# Altium footprint library Seeed-OPL-ic.PCBLIB: 95 footprints (part 6 of 6)
Each footprint in its own frame and in the unit in brackets; x right, y up, seen from the top. Pads: shape width x height; smd on the part's side, far side on the other; paste and mask are expansions set on the pad; w line width, h text height; cw(c..) or ccw(c..) is an arc to the next point about the centre after c.
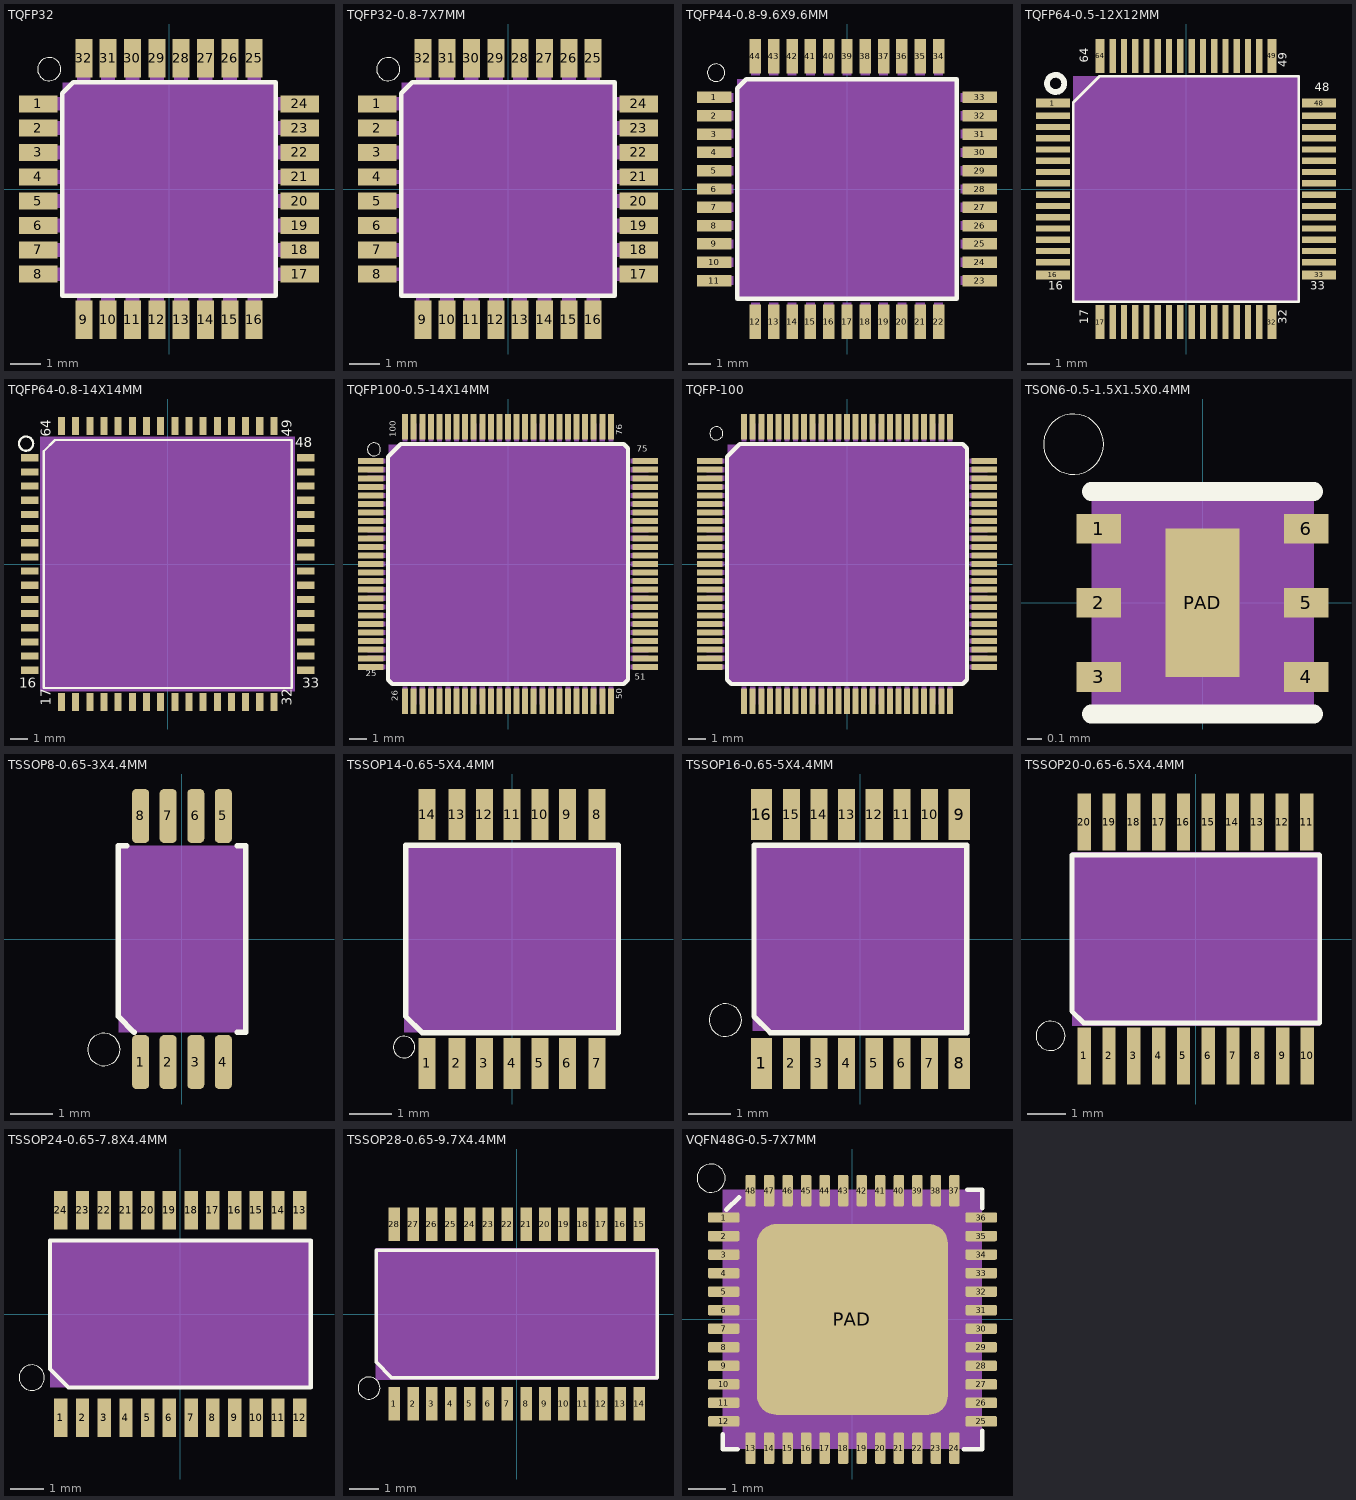
[diagram p5: the footprints below, top view; thin cyan lines are the x and y axes]

## TQFP32 [mil]
pads (32):
  rect 50x22 smd: 1(-169,110.24) 2(-169,78.74) 3(-169,47.24) 4(-169,15.75) 5(-169,-15.75) 6(-169,-47.24) 7(-169,-78.74) 8(-169,-110.24) 17(169,-110.24) 18(169,-78.74) 19(169,-47.24) 20(169,-15.75) 21(169,15.75) 22(169,47.24) 23(169,78.74) 24(169,110.24)
  rect 22x50 smd: 9(-110.24,-169) 10(-78.74,-169) 11(-47.24,-169) 12(-15.75,-169) 13(15.75,-169) 14(47.24,-169) 15(78.74,-169) 16(110.24,-169) 25(110.24,169) 26(78.74,169) 27(47.24,169) 28(15.75,169) 29(-15.75,169) 30(-47.24,169) 31(-78.74,169) 32(-110.24,169)
Top Overlay:
  circle w0: c-155,155 r15
  lines w6: -137.99,-137.99 137.99,-137.99 137.99,137.99 -124.02,137.99 -137.99,124.02 -137.99,-137.99
Mechanical 16:
  rectangle: -179,101.24 -140,119.24
  rectangle: -179,69.74 -140,87.74
  rectangle: -179,38.24 -140,56.24
  rectangle: -179,6.75 -140,24.75
  rectangle: -179,-24.75 -140,-6.75
  rectangle: -179,-56.24 -140,-38.24
  rectangle: -179,-87.74 -140,-69.74
  rectangle: -179,-119.24 -140,-101.24
  rectangle: -119.24,-179 -101.24,-140
  rectangle: -87.74,-179 -69.74,-140
  rectangle: -56.24,-179 -38.24,-140
  rectangle: -24.75,-179 -6.75,-140
  rectangle: 6.75,-179 24.75,-140
  rectangle: 38.24,-179 56.24,-140
  rectangle: 69.74,-179 87.74,-140
  rectangle: 101.24,-179 119.24,-140
  rectangle: 140,-119.24 179,-101.24
  rectangle: 140,-87.74 179,-69.74
  rectangle: 140,-56.24 179,-38.24
  rectangle: 140,-24.75 179,-6.75
  rectangle: 140,6.75 179,24.75
  rectangle: 140,38.24 179,56.24
  rectangle: 140,69.74 179,87.74
  rectangle: 140,101.24 179,119.24
  rectangle: 101.24,140 119.24,179
  rectangle: 69.74,140 87.74,179
  rectangle: 38.24,140 56.24,179
  rectangle: 6.75,140 24.75,179
  rectangle: -24.75,140 -6.75,179
  rectangle: -56.24,140 -38.24,179
  rectangle: -87.74,140 -69.74,179
  rectangle: -119.24,140 -101.24,179
Mechanical 27:
  rectangle: -137.99,-137.99 137.99,137.99

## TQFP32-0.8-7X7MM [mil]
pads (32):
  rect 50x22 smd: 1(-169,110.24) 2(-169,78.74) 3(-169,47.24) 4(-169,15.75) 5(-169,-15.75) 6(-169,-47.24) 7(-169,-78.74) 8(-169,-110.24) 17(169,-110.24) 18(169,-78.74) 19(169,-47.24) 20(169,-15.75) 21(169,15.75) 22(169,47.24) 23(169,78.74) 24(169,110.24)
  rect 22x50 smd: 9(-110.24,-169) 10(-78.74,-169) 11(-47.24,-169) 12(-15.75,-169) 13(15.75,-169) 14(47.24,-169) 15(78.74,-169) 16(110.24,-169) 25(110.24,169) 26(78.74,169) 27(47.24,169) 28(15.75,169) 29(-15.75,169) 30(-47.24,169) 31(-78.74,169) 32(-110.24,169)
Top Overlay:
  circle w0: c-155,155 r15
  lines w6: -137.99,-137.99 137.99,-137.99 137.99,137.99 -124.02,137.99 -137.99,124.02 -137.99,-137.99
Mechanical 16:
  rectangle: -179,101.24 -140,119.24
  rectangle: -179,69.74 -140,87.74
  rectangle: -179,38.24 -140,56.24
  rectangle: -179,6.75 -140,24.75
  rectangle: -179,-24.75 -140,-6.75
  rectangle: -179,-56.24 -140,-38.24
  rectangle: -179,-87.74 -140,-69.74
  rectangle: -179,-119.24 -140,-101.24
  rectangle: -119.24,-179 -101.24,-140
  rectangle: -87.74,-179 -69.74,-140
  rectangle: -56.24,-179 -38.24,-140
  rectangle: -24.75,-179 -6.75,-140
  rectangle: 6.75,-179 24.75,-140
  rectangle: 38.24,-179 56.24,-140
  rectangle: 69.74,-179 87.74,-140
  rectangle: 101.24,-179 119.24,-140
  rectangle: 140,-119.24 179,-101.24
  rectangle: 140,-87.74 179,-69.74
  rectangle: 140,-56.24 179,-38.24
  rectangle: 140,-24.75 179,-6.75
  rectangle: 140,6.75 179,24.75
  rectangle: 140,38.24 179,56.24
  rectangle: 140,69.74 179,87.74
  rectangle: 140,101.24 179,119.24
  rectangle: 101.24,140 119.24,179
  rectangle: 69.74,140 87.74,179
  rectangle: 38.24,140 56.24,179
  rectangle: 6.75,140 24.75,179
  rectangle: -24.75,140 -6.75,179
  rectangle: -56.24,140 -38.24,179
  rectangle: -87.74,140 -69.74,179
  rectangle: -119.24,140 -101.24,179
Mechanical 27:
  rectangle: -137.99,-137.99 137.99,137.99

## TQFP44-0.8-9.6X9.6MM [mm]
pads (44):
  rect 1.5x0.5 smd: 1(-5.8,4) 2(-5.8,3.2) 3(-5.8,2.4) 4(-5.8,1.6) 5(-5.8,0.8) 6(-5.8,0) 7(-5.8,-0.8) 8(-5.8,-1.6) 9(-5.8,-2.4) 10(-5.8,-3.2) 11(-5.8,-4) 23(5.8,-4) 24(5.8,-3.2) 25(5.8,-2.4) 26(5.8,-1.6) 27(5.8,-0.8) 28(5.8,0) 29(5.8,0.8) 30(5.8,1.6) 31(5.8,2.4) 32(5.8,3.2) 33(5.8,4)
  rect 0.5x1.5 smd: 12(-4,-5.8) 13(-3.2,-5.8) 14(-2.4,-5.8) 15(-1.6,-5.8) 16(-0.8,-5.8) 17(0,-5.8) 18(0.8,-5.8) 19(1.6,-5.8) 20(2.4,-5.8) 21(3.2,-5.8) 22(4,-5.8) 34(4,5.8) 35(3.2,5.8) 36(2.4,5.8) 37(1.6,5.8) 38(0.8,5.8) 39(0,5.8) 40(-0.8,5.8) 41(-1.6,5.8) 42(-2.4,5.8) 43(-3.2,5.8) 44(-4,5.8)
Top Overlay:
  circle w0: c-5.715,5.08 r0.381
  lines w0.203: -4.8,-4.8 4.8,-4.8 4.8,4.8 -4.4,4.8 -4.8,4.4 -4.8,-4.8
Mechanical 16:
  rectangle: -6.1,3.8 -4.95,4.2
  rectangle: -6.1,3 -4.95,3.4
  rectangle: -6.1,2.2 -4.95,2.6
  rectangle: -6.1,1.4 -4.95,1.8
  rectangle: -6.1,0.6 -4.95,1
  rectangle: -6.1,-0.2 -4.95,0.2
  rectangle: -6.1,-1 -4.95,-0.6
  rectangle: -6.1,-1.8 -4.95,-1.4
  rectangle: -6.1,-2.6 -4.95,-2.2
  rectangle: -6.1,-3.4 -4.95,-3
  rectangle: -6.1,-4.2 -4.95,-3.8
  rectangle: -4.2,-6.1 -3.8,-4.95
  rectangle: -3.4,-6.1 -3,-4.95
  rectangle: -2.6,-6.1 -2.2,-4.95
  rectangle: -1.8,-6.1 -1.4,-4.95
  rectangle: -1,-6.1 -0.6,-4.95
  rectangle: -0.2,-6.1 0.2,-4.95
  rectangle: 0.6,-6.1 1,-4.95
  rectangle: 1.4,-6.1 1.8,-4.95
  rectangle: 2.2,-6.1 2.6,-4.95
  rectangle: 3,-6.1 3.4,-4.95
  rectangle: 3.8,-6.1 4.2,-4.95
  rectangle: 4.95,-4.2 6.1,-3.8
  rectangle: 4.95,-3.4 6.1,-3
  rectangle: 4.95,-2.6 6.1,-2.2
  rectangle: 4.95,-1.8 6.1,-1.4
  rectangle: 4.95,-1 6.1,-0.6
  rectangle: 4.95,-0.2 6.1,0.2
  rectangle: 4.95,0.6 6.1,1
  rectangle: 4.95,1.4 6.1,1.8
  rectangle: 4.95,2.2 6.1,2.6
  rectangle: 4.95,3 6.1,3.4
  rectangle: 4.95,3.8 6.1,4.2
  rectangle: 3.8,4.95 4.2,6.1
  rectangle: 3,4.95 3.4,6.1
  rectangle: 2.2,4.95 2.6,6.1
  rectangle: 1.4,4.95 1.8,6.1
  rectangle: 0.6,4.95 1,6.1
  rectangle: -0.2,4.95 0.2,6.1
  rectangle: -1,4.95 -0.6,6.1
  rectangle: -1.8,4.95 -1.4,6.1
  rectangle: -2.6,4.95 -2.2,6.1
  rectangle: -3.4,4.95 -3,6.1
  rectangle: -4.2,4.95 -3.8,6.1
Mechanical 27:
  rectangle: -4.8,-4.8 4.8,4.8

## TQFP64-0.5-12X12MM [mm]
pads (64):
  rect 1.5x0.4 smd: 1(-5.9,3.81) 16(-5.9,-3.81) 33(5.9,-3.81) 48(5.9,3.81)
  rect 1.5x0.28 smd: 2(-5.9,3.25) 3(-5.9,2.75) 4(-5.9,2.25) 5(-5.9,1.75) 6(-5.9,1.25) 7(-5.9,0.75) 8(-5.9,0.25) 9(-5.9,-0.25) 10(-5.9,-0.75) 11(-5.9,-1.25) 12(-5.9,-1.75) 13(-5.9,-2.25) 14(-5.9,-2.75) 15(-5.9,-3.25) 34(5.9,-3.25) 35(5.9,-2.75) 36(5.9,-2.25) 37(5.9,-1.75) 38(5.9,-1.25) 39(5.9,-0.75) 40(5.9,-0.25) 41(5.9,0.25) 42(5.9,0.75) 43(5.9,1.25) 44(5.9,1.75) 45(5.9,2.25) 46(5.9,2.75) 47(5.9,3.25)
  rect 0.4x1.5 smd: 17(-3.81,-5.9) 32(3.81,-5.9) 49(3.81,5.9) 64(-3.81,5.9)
  rect 0.28x1.5 smd: 18(-3.25,-5.9) 19(-2.75,-5.9) 20(-2.25,-5.9) 21(-1.75,-5.9) 22(-1.25,-5.9) 23(-0.75,-5.9) 24(-0.25,-5.9) 25(0.25,-5.9) 26(0.75,-5.9) 27(1.25,-5.9) 28(1.75,-5.9) 29(2.25,-5.9) 30(2.75,-5.9) 31(3.25,-5.9) 50(3.25,5.9) 51(2.75,5.9) 52(2.25,5.9) 53(1.75,5.9) 54(1.25,5.9) 55(0.75,5.9) 56(0.25,5.9) 57(-0.25,5.9) 58(-0.75,5.9) 59(-1.25,5.9) 60(-1.75,5.9) 61(-2.25,5.9) 62(-2.75,5.9) 63(-3.25,5.9)
Top Overlay:
  circle w0.254: c-5.78,4.68 r0.381
  lines w0.127: -5,-5 -5,3.842 -3.842,5 5,5 5,-5 -5,-5
  text "16" at -6.1,-4.6 h0.63
  text "17" at -4.2,-6 h0.63
  text "32" at 4.6,-6 h0.63
  text "33" at 5.5,-4.6 h0.63
  text "48" at 5.7,4.2 h0.63
  text "49" at 4.6,5.4 h0.63
  text "64" at -4.2,5.6 h0.63
Mechanical 27:
  rectangle: -5,-5 5,5

## TQFP64-0.8-14X14MM [mm]
pads (64):
  rect 1x0.4 smd: 1(-7.8,6) 2(-7.8,5.2) 3(-7.8,4.4) 4(-7.8,3.6) 5(-7.8,2.8) 6(-7.8,2) 7(-7.8,1.2) 8(-7.8,0.4) 9(-7.8,-0.4) 10(-7.8,-1.2) 11(-7.8,-2) 12(-7.8,-2.8) 13(-7.8,-3.6) 14(-7.8,-4.4) 15(-7.8,-5.2) 16(-7.8,-6) 33(7.8,-6) 34(7.8,-5.2) 35(7.8,-4.4) 36(7.8,-3.6) 37(7.8,-2.8) 38(7.8,-2) 39(7.8,-1.2) 40(7.8,-0.4) 41(7.8,0.4) 42(7.8,1.2) 43(7.8,2) 44(7.8,2.8) 45(7.8,3.6) 46(7.8,4.4) 47(7.8,5.2) 48(7.8,6)
  rect 0.4x1 smd: 17(-6,-7.8) 18(-5.2,-7.8) 19(-4.4,-7.8) 20(-3.6,-7.8) 21(-2.8,-7.8) 22(-2,-7.8) 23(-1.2,-7.8) 24(-0.4,-7.8) 25(0.4,-7.8) 26(1.2,-7.8) 27(2,-7.8) 28(2.8,-7.8) 29(3.6,-7.8) 30(4.4,-7.8) 31(5.2,-7.8) 32(6,-7.8) 49(6,7.8) 50(5.2,7.8) 51(4.4,7.8) 52(3.6,7.8) 53(2.8,7.8) 54(2,7.8) 55(1.2,7.8) 56(0.4,7.8) 57(-0.4,7.8) 58(-1.2,7.8) 59(-2,7.8) 60(-2.8,7.8) 61(-3.6,7.8) 62(-4.4,7.8) 63(-5.2,7.8) 64(-6,7.8)
Top Overlay:
  circle w0.127: c-8,6.8 r0.4
  lines w0.127: -7,-7 7,-7 7,7 -6.368,7 -7,6.368 -7,-7
  text "16" at -8.4,-7.2 h0.94
  text "17" at -6.4,-8 h0.94
  text "32" at 7.2,-8 h0.94
  text "33" at 7.6,-7.2 h0.94
  text "48" at 7.2,6.4 h0.94
  text "49" at 7.2,7.2 h0.94
  text "64" at -6.4,7.2 h0.94
Mechanical 27:
  rectangle: -7.2,-7.2 7.2,7.2

## TQFP100-0.5-14X14MM [mm]
pads (100):
  rect 1.5x0.35 smd: 1(-8,6) 2(-8,5.5) 3(-8,5) 4(-8,4.5) 5(-8,4) 6(-8,3.5) 7(-8,3) 8(-8,2.5) 9(-8,2) 10(-8,1.5) 11(-8,1) 12(-8,0.5) 13(-8,0) 14(-8,-0.5) 15(-8,-1) 16(-8,-1.5) 17(-8,-2) 18(-8,-2.5) 19(-8,-3) 20(-8,-3.5) 21(-8,-4) 22(-8,-4.5) 23(-8,-5) 24(-8,-5.5) 25(-8,-6) 51(8,-6) 52(8,-5.5) 53(8,-5) 54(8,-4.5) 55(8,-4) 56(8,-3.5) 57(8,-3) 58(8,-2.5) 59(8,-2) 60(8,-1.5) 61(8,-1) 62(8,-0.5) 63(8,0) 64(8,0.5) 65(8,1) 66(8,1.5) 67(8,2) 68(8,2.5) 69(8,3) 70(8,3.5) 71(8,4) 72(8,4.5) 73(8,5) 74(8,5.5) 75(8,6)
  rect 0.35x1.5 smd: 26(-6,-8) 27(-5.5,-8) 28(-5,-8) 29(-4.5,-8) 30(-4,-8) 31(-3.5,-8) 32(-3,-8) 33(-2.5,-8) 34(-2,-8) 35(-1.5,-8) 36(-1,-8) 37(-0.5,-8) 38(0,-8) 39(0.5,-8) 40(1,-8) 41(1.5,-8) 42(2,-8) 43(2.5,-8) 44(3,-8) 45(3.5,-8) 46(4,-8) 47(4.5,-8) 48(5,-8) 49(5.5,-8) 50(6,-8) 76(6,8) 77(5.5,8) 78(5,8) 79(4.5,8) 80(4,8) 81(3.5,8) 82(3,8) 83(2.5,8) 84(2,8) 85(1.5,8) 86(1,8) 87(0.5,8) 88(0,8) 89(-0.5,8) 90(-1,8) 91(-1.5,8) 92(-2,8) 93(-2.5,8) 94(-3,8) 95(-3.5,8) 96(-4,8) 97(-4.5,8) 98(-5,8) 99(-5.5,8) 100(-6,8)
Top Overlay:
  circle w0: c-7.82,6.685 r0.381
  lines w0.254: -7,-6.75 -6.75,-7 6.75,-7 7,-6.75 7,6.75 6.75,7 -6.25,7 -7,6.25 -7,-6.75
  text "25" at -8.3,-6.7 h0.63
  text "26" at -6.3,-8 h0.63
  text "50" at 6.8,-7.9 h0.63
  text "51" at 7.4,-6.9 h0.63
  text "75" at 7.5,6.4 h0.63
  text "76" at 6.8,7.5 h0.63
  text "100" at -6.4,7.4 h0.63
Mechanical 16:
  circle w0.102: c3.59,-0.77 r0.5
  rectangle: -8.2,5.85 -7.15,6.15
  rectangle: -8.2,5.35 -7.15,5.65
  rectangle: -8.2,4.85 -7.15,5.15
  rectangle: -8.2,4.35 -7.15,4.65
  rectangle: -8.2,3.85 -7.15,4.15
  rectangle: -8.2,3.35 -7.15,3.65
  rectangle: -8.2,2.85 -7.15,3.15
  rectangle: -8.2,2.35 -7.15,2.65
  rectangle: -8.2,1.85 -7.15,2.15
  rectangle: -8.2,1.35 -7.15,1.65
  rectangle: -8.2,0.85 -7.15,1.15
  rectangle: -8.2,0.35 -7.15,0.65
  rectangle: -8.2,-0.15 -7.15,0.15
  rectangle: -8.2,-0.65 -7.15,-0.35
  rectangle: -8.2,-1.15 -7.15,-0.85
  rectangle: -8.2,-1.65 -7.15,-1.35
  rectangle: -8.2,-2.15 -7.15,-1.85
  rectangle: -8.2,-2.65 -7.15,-2.35
  rectangle: -8.2,-3.15 -7.15,-2.85
  rectangle: -8.2,-3.65 -7.15,-3.35
  rectangle: -8.2,-4.15 -7.15,-3.85
  rectangle: -8.2,-4.65 -7.15,-4.35
  rectangle: -8.2,-5.15 -7.15,-4.85
  rectangle: -8.2,-5.65 -7.15,-5.35
  rectangle: -8.2,-6.15 -7.15,-5.85
  rectangle: -6.15,-8.2 -5.85,-7.15
  rectangle: -5.65,-8.2 -5.35,-7.15
  rectangle: -5.15,-8.2 -4.85,-7.15
  rectangle: -4.65,-8.2 -4.35,-7.15
  rectangle: -4.15,-8.2 -3.85,-7.15
  rectangle: -3.65,-8.2 -3.35,-7.15
  rectangle: -3.15,-8.2 -2.85,-7.15
  rectangle: -2.65,-8.2 -2.35,-7.15
  rectangle: -2.15,-8.2 -1.85,-7.15
  rectangle: -1.65,-8.2 -1.35,-7.15
  rectangle: -1.15,-8.2 -0.85,-7.15
  rectangle: -0.65,-8.2 -0.35,-7.15
  rectangle: -0.15,-8.2 0.15,-7.15
  rectangle: 0.35,-8.2 0.65,-7.15
  rectangle: 0.85,-8.2 1.15,-7.15
  rectangle: 1.35,-8.2 1.65,-7.15
  rectangle: 1.85,-8.2 2.15,-7.15
  rectangle: 2.35,-8.2 2.65,-7.15
  rectangle: 2.85,-8.2 3.15,-7.15
  rectangle: 3.35,-8.2 3.65,-7.15
  rectangle: 3.85,-8.2 4.15,-7.15
  rectangle: 4.35,-8.2 4.65,-7.15
  rectangle: 4.85,-8.2 5.15,-7.15
  rectangle: 5.35,-8.2 5.65,-7.15
  rectangle: 5.85,-8.2 6.15,-7.15
  rectangle: 7.15,-6.15 8.2,-5.85
  rectangle: 7.15,-5.65 8.2,-5.35
  rectangle: 7.15,-5.15 8.2,-4.85
  rectangle: 7.15,-4.65 8.2,-4.35
  rectangle: 7.15,-4.15 8.2,-3.85
  rectangle: 7.15,-3.65 8.2,-3.35
  rectangle: 7.15,-3.15 8.2,-2.85
  rectangle: 7.15,-2.65 8.2,-2.35
  rectangle: 7.15,-2.15 8.2,-1.85
  rectangle: 7.15,-1.65 8.2,-1.35
  rectangle: 7.15,-1.15 8.2,-0.85
  rectangle: 7.15,-0.65 8.2,-0.35
  rectangle: 7.15,-0.15 8.2,0.15
  rectangle: 7.15,0.35 8.2,0.65
  rectangle: 7.15,0.85 8.2,1.15
  rectangle: 7.15,1.35 8.2,1.65
  rectangle: 7.15,1.85 8.2,2.15
  rectangle: 7.15,2.35 8.2,2.65
  rectangle: 7.15,2.85 8.2,3.15
  rectangle: 7.15,3.35 8.2,3.65
  rectangle: 7.15,3.85 8.2,4.15
  rectangle: 7.15,4.35 8.2,4.65
  rectangle: 7.15,4.85 8.2,5.15
  rectangle: 7.15,5.35 8.2,5.65
  rectangle: 7.15,5.85 8.2,6.15
  rectangle: 5.85,7.15 6.15,8.2
  rectangle: 5.35,7.15 5.65,8.2
  rectangle: 4.85,7.15 5.15,8.2
  rectangle: 4.35,7.15 4.65,8.2
  rectangle: 3.85,7.15 4.15,8.2
  rectangle: 3.35,7.15 3.65,8.2
  rectangle: 2.85,7.15 3.15,8.2
  rectangle: 2.35,7.15 2.65,8.2
  rectangle: 1.85,7.15 2.15,8.2
  rectangle: 1.35,7.15 1.65,8.2
  rectangle: 0.85,7.15 1.15,8.2
  rectangle: 0.35,7.15 0.65,8.2
  rectangle: -0.15,7.15 0.15,8.2
  rectangle: -0.65,7.15 -0.35,8.2
  rectangle: -1.15,7.15 -0.85,8.2
  rectangle: -1.65,7.15 -1.35,8.2
  rectangle: -2.15,7.15 -1.85,8.2
  rectangle: -2.65,7.15 -2.35,8.2
  rectangle: -3.15,7.15 -2.85,8.2
  rectangle: -3.65,7.15 -3.35,8.2
  rectangle: -4.15,7.15 -3.85,8.2
  rectangle: -4.65,7.15 -4.35,8.2
  rectangle: -5.15,7.15 -4.85,8.2
  rectangle: -5.65,7.15 -5.35,8.2
  rectangle: -6.15,7.15 -5.85,8.2
  region: 0,0 0.254,0 0.254,0.254 0,0.254
  region: 0,0 0.254,0 0.254,0.254 0,0.254
  region: 0,0 0.254,0 0.254,0.254 0,0.254
  region: 0,0 0.254,0 0.254,0.254 0,0.254
  region: 0,0 0.254,0 0.254,0.254 0,0.254
  region: 0,0 0.254,0 0.254,0.254 0,0.254
  lines w0.102: -0.01,1.33 cw(c-0.01,0.93) 0.39,0.93
  text "TQFP 100" at -2.81,-2.48 h1.26
  text "R" at 3.39,-1.07 h0.94
Mechanical 27:
  rectangle: -6.985,-6.985 6.985,6.985

## TQFP-100 [mm]
pads (100):
  rect 1.5x0.35 smd: 1(-8,6) 2(-8,5.5) 3(-8,5) 4(-8,4.5) 5(-8,4) 6(-8,3.5) 7(-8,3) 8(-8,2.5) 9(-8,2) 10(-8,1.5) 11(-8,1) 12(-8,0.5) 13(-8,0) 14(-8,-0.5) 15(-8,-1) 16(-8,-1.5) 17(-8,-2) 18(-8,-2.5) 19(-8,-3) 20(-8,-3.5) 21(-8,-4) 22(-8,-4.5) 23(-8,-5) 24(-8,-5.5) 25(-8,-6) 51(8,-6) 52(8,-5.5) 53(8,-5) 54(8,-4.5) 55(8,-4) 56(8,-3.5) 57(8,-3) 58(8,-2.5) 59(8,-2) 60(8,-1.5) 61(8,-1) 62(8,-0.5) 63(8,0) 64(8,0.5) 65(8,1) 66(8,1.5) 67(8,2) 68(8,2.5) 69(8,3) 70(8,3.5) 71(8,4) 72(8,4.5) 73(8,5) 74(8,5.5) 75(8,6)
  rect 0.35x1.5 smd: 26(-6,-8) 27(-5.5,-8) 28(-5,-8) 29(-4.5,-8) 30(-4,-8) 31(-3.5,-8) 32(-3,-8) 33(-2.5,-8) 34(-2,-8) 35(-1.5,-8) 36(-1,-8) 37(-0.5,-8) 38(0,-8) 39(0.5,-8) 40(1,-8) 41(1.5,-8) 42(2,-8) 43(2.5,-8) 44(3,-8) 45(3.5,-8) 46(4,-8) 47(4.5,-8) 48(5,-8) 49(5.5,-8) 50(6,-8) 76(6,8) 77(5.5,8) 78(5,8) 79(4.5,8) 80(4,8) 81(3.5,8) 82(3,8) 83(2.5,8) 84(2,8) 85(1.5,8) 86(1,8) 87(0.5,8) 88(0,8) 89(-0.5,8) 90(-1,8) 91(-1.5,8) 92(-2,8) 93(-2.5,8) 94(-3,8) 95(-3.5,8) 96(-4,8) 97(-4.5,8) 98(-5,8) 99(-5.5,8) 100(-6,8)
Top Overlay:
  circle w0: c-7.62,7.62 r0.381
  lines w0.254: -7,-6.75 -6.75,-7 6.75,-7 7,-6.75 7,6.75 6.75,7 -6.25,7 -7,6.25 -7,-6.75
Mechanical 16:
  circle w0.102: c3.59,-0.77 r0.5
  rectangle: -8.2,5.85 -7.15,6.15
  rectangle: -8.2,5.35 -7.15,5.65
  rectangle: -8.2,4.85 -7.15,5.15
  rectangle: -8.2,4.35 -7.15,4.65
  rectangle: -8.2,3.85 -7.15,4.15
  rectangle: -8.2,3.35 -7.15,3.65
  rectangle: -8.2,2.85 -7.15,3.15
  rectangle: -8.2,2.35 -7.15,2.65
  rectangle: -8.2,1.85 -7.15,2.15
  rectangle: -8.2,1.35 -7.15,1.65
  rectangle: -8.2,0.85 -7.15,1.15
  rectangle: -8.2,0.35 -7.15,0.65
  rectangle: -8.2,-0.15 -7.15,0.15
  rectangle: -8.2,-0.65 -7.15,-0.35
  rectangle: -8.2,-1.15 -7.15,-0.85
  rectangle: -8.2,-1.65 -7.15,-1.35
  rectangle: -8.2,-2.15 -7.15,-1.85
  rectangle: -8.2,-2.65 -7.15,-2.35
  rectangle: -8.2,-3.15 -7.15,-2.85
  rectangle: -8.2,-3.65 -7.15,-3.35
  rectangle: -8.2,-4.15 -7.15,-3.85
  rectangle: -8.2,-4.65 -7.15,-4.35
  rectangle: -8.2,-5.15 -7.15,-4.85
  rectangle: -8.2,-5.65 -7.15,-5.35
  rectangle: -8.2,-6.15 -7.15,-5.85
  rectangle: -6.15,-8.2 -5.85,-7.15
  rectangle: -5.65,-8.2 -5.35,-7.15
  rectangle: -5.15,-8.2 -4.85,-7.15
  rectangle: -4.65,-8.2 -4.35,-7.15
  rectangle: -4.15,-8.2 -3.85,-7.15
  rectangle: -3.65,-8.2 -3.35,-7.15
  rectangle: -3.15,-8.2 -2.85,-7.15
  rectangle: -2.65,-8.2 -2.35,-7.15
  rectangle: -2.15,-8.2 -1.85,-7.15
  rectangle: -1.65,-8.2 -1.35,-7.15
  rectangle: -1.15,-8.2 -0.85,-7.15
  rectangle: -0.65,-8.2 -0.35,-7.15
  rectangle: -0.15,-8.2 0.15,-7.15
  rectangle: 0.35,-8.2 0.65,-7.15
  rectangle: 0.85,-8.2 1.15,-7.15
  rectangle: 1.35,-8.2 1.65,-7.15
  rectangle: 1.85,-8.2 2.15,-7.15
  rectangle: 2.35,-8.2 2.65,-7.15
  rectangle: 2.85,-8.2 3.15,-7.15
  rectangle: 3.35,-8.2 3.65,-7.15
  rectangle: 3.85,-8.2 4.15,-7.15
  rectangle: 4.35,-8.2 4.65,-7.15
  rectangle: 4.85,-8.2 5.15,-7.15
  rectangle: 5.35,-8.2 5.65,-7.15
  rectangle: 5.85,-8.2 6.15,-7.15
  rectangle: 7.15,-6.15 8.2,-5.85
  rectangle: 7.15,-5.65 8.2,-5.35
  rectangle: 7.15,-5.15 8.2,-4.85
  rectangle: 7.15,-4.65 8.2,-4.35
  rectangle: 7.15,-4.15 8.2,-3.85
  rectangle: 7.15,-3.65 8.2,-3.35
  rectangle: 7.15,-3.15 8.2,-2.85
  rectangle: 7.15,-2.65 8.2,-2.35
  rectangle: 7.15,-2.15 8.2,-1.85
  rectangle: 7.15,-1.65 8.2,-1.35
  rectangle: 7.15,-1.15 8.2,-0.85
  rectangle: 7.15,-0.65 8.2,-0.35
  rectangle: 7.15,-0.15 8.2,0.15
  rectangle: 7.15,0.35 8.2,0.65
  rectangle: 7.15,0.85 8.2,1.15
  rectangle: 7.15,1.35 8.2,1.65
  rectangle: 7.15,1.85 8.2,2.15
  rectangle: 7.15,2.35 8.2,2.65
  rectangle: 7.15,2.85 8.2,3.15
  rectangle: 7.15,3.35 8.2,3.65
  rectangle: 7.15,3.85 8.2,4.15
  rectangle: 7.15,4.35 8.2,4.65
  rectangle: 7.15,4.85 8.2,5.15
  rectangle: 7.15,5.35 8.2,5.65
  rectangle: 7.15,5.85 8.2,6.15
  rectangle: 5.85,7.15 6.15,8.2
  rectangle: 5.35,7.15 5.65,8.2
  rectangle: 4.85,7.15 5.15,8.2
  rectangle: 4.35,7.15 4.65,8.2
  rectangle: 3.85,7.15 4.15,8.2
  rectangle: 3.35,7.15 3.65,8.2
  rectangle: 2.85,7.15 3.15,8.2
  rectangle: 2.35,7.15 2.65,8.2
  rectangle: 1.85,7.15 2.15,8.2
  rectangle: 1.35,7.15 1.65,8.2
  rectangle: 0.85,7.15 1.15,8.2
  rectangle: 0.35,7.15 0.65,8.2
  rectangle: -0.15,7.15 0.15,8.2
  rectangle: -0.65,7.15 -0.35,8.2
  rectangle: -1.15,7.15 -0.85,8.2
  rectangle: -1.65,7.15 -1.35,8.2
  rectangle: -2.15,7.15 -1.85,8.2
  rectangle: -2.65,7.15 -2.35,8.2
  rectangle: -3.15,7.15 -2.85,8.2
  rectangle: -3.65,7.15 -3.35,8.2
  rectangle: -4.15,7.15 -3.85,8.2
  rectangle: -4.65,7.15 -4.35,8.2
  rectangle: -5.15,7.15 -4.85,8.2
  rectangle: -5.65,7.15 -5.35,8.2
  rectangle: -6.15,7.15 -5.85,8.2
  region: 0,0 0.254,0 0.254,0.254 0,0.254
  region: 0,0 0.254,0 0.254,0.254 0,0.254
  region: 0,0 0.254,0 0.254,0.254 0,0.254
  region: 0,0 0.254,0 0.254,0.254 0,0.254
  region: 0,0 0.254,0 0.254,0.254 0,0.254
  region: 0,0 0.254,0 0.254,0.254 0,0.254
  lines w0.102: -0.01,1.33 cw(c-0.01,0.93) 0.39,0.93
  text "TQFP 100" at -2.81,-2.48 h1.26
  text "R" at 3.39,-1.07 h0.94
Mechanical 27:
  rectangle: -6.985,-6.985 6.985,6.985

## TSON6-0.5-1.5X1.5X0.4MM [mm]
pads (7):
  rect 0.3x0.2 smd: 1(-0.7,0.5) 2(-0.7,0) 3(-0.7,-0.5) 4(0.7,-0.5) 5(0.7,0) 6(0.7,0.5)
  rect 0.5x1 smd: PAD(0,0)
Top Overlay:
  circle w0: c-0.87,1.07 r0.203
  lines w0.127: -0.75,-0.75 0.75,-0.75 ; -0.75,0.75 0.75,0.75
Top Paste:
  rectangle: -0.125,-0.275 0.125,0.275
Top Solder:
  rectangle: -0.25,-0.5 0.25,0.5
Mechanical 27:
  rectangle: -0.75,-0.75 0.75,0.75

## TSSOP8-0.65-3X4.4MM [mm]
pads (8):
  rrect50% 0.4x1.27 smd: 1(-0.975,-2.9) 2(-0.325,-2.9) 3(0.325,-2.9) 4(0.975,-2.9) 5(0.975,2.9) 6(0.325,2.9) 7(-0.325,2.9) 8(-0.975,2.9)
Top Overlay:
  circle w0: c-1.841,-2.603 r0.381
  lines w0.127: -1.3,2.2 -1.5,2.2 -1.5,-1.826 -1.126,-2.2 ; 1.3,-2.2 1.5,-2.2 1.5,2.2 1.3,2.2
Mechanical 27:
  rectangle: -1.5,-2.2 1.5,2.2

## TSSOP14-0.65-5X4.4MM [mm]
pads (14):
  rect 0.4x1.2 smd: 1(-2,-2.925) 2(-1.3,-2.925) 3(-0.65,-2.925) 4(0,-2.925) 5(0.65,-2.925) 6(1.3,-2.925) 7(2,-2.925) 8(2,2.925) 9(1.3,2.925) 10(0.65,2.925) 11(0,2.925) 12(-0.65,2.925) 13(-1.3,2.925) 14(-2,2.925)
Top Overlay:
  circle w0: c-2.54,-2.54 r0.254
  lines w0.127: -2.5,-1.819 -2.119,-2.2 2.5,-2.2 2.5,2.2 -2.5,2.2 -2.5,-1.819
Mechanical 27:
  rectangle: -2.54,-2.2 2.54,2.2

## TSSOP16-0.65-5X4.4MM [mm]
pads (16):
  rect 0.5x1.2 smd: 1(-2.325,-2.925) 8(2.325,-2.925) 9(2.325,2.925) 16(-2.325,2.925)
  rect 0.4x1.2 smd: 2(-1.625,-2.925) 3(-0.975,-2.925) 4(-0.325,-2.925) 5(0.325,-2.925) 6(0.975,-2.925) 7(1.625,-2.925) 10(1.625,2.925) 11(0.975,2.925) 12(0.325,2.925) 13(-0.325,2.925) 14(-0.975,2.925) 15(-1.625,2.925)
Top Overlay:
  circle w0: c-3.175,-1.905 r0.381
  lines w0.127: -2.5,-1.819 -2.119,-2.2 2.5,-2.2 2.5,2.2 -2.5,2.2 -2.5,-1.819
Mechanical 27:
  rectangle: -2.54,-2.159 2.54,2.159

## TSSOP20-0.65-6.5X4.4MM [mm]
pads (20):
  rect 0.35x1.5 smd: 1(-2.925,-3.065) 2(-2.275,-3.065) 3(-1.625,-3.065) 4(-0.975,-3.065) 5(-0.325,-3.065) 6(0.325,-3.065) 7(0.975,-3.065) 8(1.625,-3.065) 9(2.275,-3.065) 10(2.925,-3.065) 11(2.91,3.065) 12(2.26,3.065) 13(1.61,3.065) 14(0.96,3.065) 15(0.325,3.065) 16(-0.325,3.065) 17(-0.975,3.065) 18(-1.625,3.065) 19(-2.275,3.065) 20(-2.925,3.065)
Top Overlay:
  circle w0: c-3.81,-2.54 r0.381
  lines w0.127: -3.25,-1.896 -2.946,-2.2 3.25,-2.2 3.25,2.2 -3.25,2.2 -3.25,-1.896
Mechanical 27:
  rectangle: -3.25,-2.275 3.25,2.275

## TSSOP24-0.65-7.8X4.4MM [mm]
pads (24):
  rect 0.4x1.15 smd: 1(-3.575,-3.1) 2(-2.925,-3.1) 3(-2.275,-3.1) 4(-1.625,-3.1) 5(-0.975,-3.1) 6(-0.325,-3.1) 7(0.325,-3.1) 8(0.975,-3.1) 9(1.625,-3.1) 10(2.275,-3.1) 11(2.925,-3.1) 12(3.575,-3.1) 13(3.575,3.1) 14(2.925,3.1) 15(2.275,3.1) 16(1.625,3.1) 17(0.975,3.1) 18(0.325,3.1) 19(-0.325,3.1) 20(-0.975,3.1) 21(-1.625,3.1) 22(-2.275,3.1) 23(-2.925,3.1) 24(-3.575,3.1)
Top Overlay:
  circle w0: c-4.445,-1.905 r0.381
  lines w0.127: -3.9,-1.644 -3.344,-2.2 3.9,-2.2 3.9,2.2 -3.9,2.2 -3.9,-1.644
Mechanical 27:
  rectangle: -3.9,-2.2 3.9,2.2

## TSSOP28-0.65-9.7X4.4MM [mm]
pads (28):
  rect 0.4x1.15 smd: 1(-4.225,-3.1) 2(-3.575,-3.1) 3(-2.925,-3.1) 4(-2.275,-3.1) 5(-1.625,-3.1) 6(-0.975,-3.1) 7(-0.325,-3.1) 8(0.325,-3.1) 9(0.975,-3.1) 10(1.625,-3.1) 11(2.275,-3.1) 12(2.925,-3.1) 13(3.575,-3.1) 14(4.225,-3.1) 15(4.225,3.1) 16(3.575,3.1) 17(2.925,3.1) 18(2.275,3.1) 19(1.625,3.1) 20(0.975,3.1) 21(0.325,3.1) 22(-0.325,3.1) 23(-0.975,3.1) 24(-1.625,3.1) 25(-2.275,3.1) 26(-2.925,3.1) 27(-3.575,3.1) 28(-4.225,3.1)
Top Overlay:
  circle w0: c-5.095,-2.555 r0.381
  lines w0.127: -4.85,-1.644 -4.319,-2.2 4.85,-2.2 4.85,2.2 -4.85,2.2 -4.85,-1.644
Mechanical 27:
  rectangle: -4.875,-2.275 4.875,2.275

## VQFN48G-0.5-7X7MM [mm]
pads (49):
  rrect30% 0.85x0.28 smd: 1(-3.475,2.75) 2(-3.475,2.25) 3(-3.475,1.75) 4(-3.475,1.25) 5(-3.475,0.75) 6(-3.475,0.25) 7(-3.475,-0.25) 8(-3.475,-0.75) 9(-3.475,-1.25) 10(-3.475,-1.75) 11(-3.475,-2.25) 12(-3.475,-2.75) 25(3.475,-2.75) 26(3.475,-2.25) 27(3.475,-1.75) 28(3.475,-1.25) 29(3.475,-0.75) 30(3.475,-0.25) 31(3.475,0.25) 32(3.475,0.75) 33(3.475,1.25) 34(3.475,1.75) 35(3.475,2.25) 36(3.475,2.75)
  rrect30% 0.28x0.85 smd: 13(-2.75,-3.475) 14(-2.25,-3.475) 15(-1.75,-3.475) 16(-1.25,-3.475) 17(-0.75,-3.475) 18(-0.25,-3.475) 19(0.25,-3.475) 20(0.75,-3.475) 21(1.25,-3.475) 22(1.75,-3.475) 23(2.25,-3.475) 24(2.75,-3.475) 37(2.75,3.475) 38(2.25,3.475) 39(1.75,3.475) 40(1.25,3.475) 41(0.75,3.475) 42(0.25,3.475) 43(-0.25,3.475) 44(-0.75,3.475) 45(-1.25,3.475) 46(-1.75,3.475) 47(-2.25,3.475) 48(-2.75,3.475)
  rrect20% 5.15x5.15 smd: PAD(0,0)
Top Overlay:
  circle w0: c-3.814,3.814 r0.381
  lines w0.127: -3.5,-3.1 -3.5,-3.5 -3.1,-3.5 ; -3.4,2.961 -3.061,3.3 ; 3,-3.5 3.5,-3.5 3.5,-3 ; 3.1,3.5 3.5,3.5 3.5,3
Mechanical 27:
  rectangle: -3.5,-3.5 3.5,3.5